# Altium footprint library 5-103639-5.PcbLib: 1 footprints
Each footprint in its own frame and in the unit in brackets; x right, y up, seen from the top. Pads: shape width x height; smd on the part's side, far side on the other; paste and mask are expansions set on the pad; w line width, h text height; cw(c..) or ccw(c..) is an arc to the next point about the centre after c.
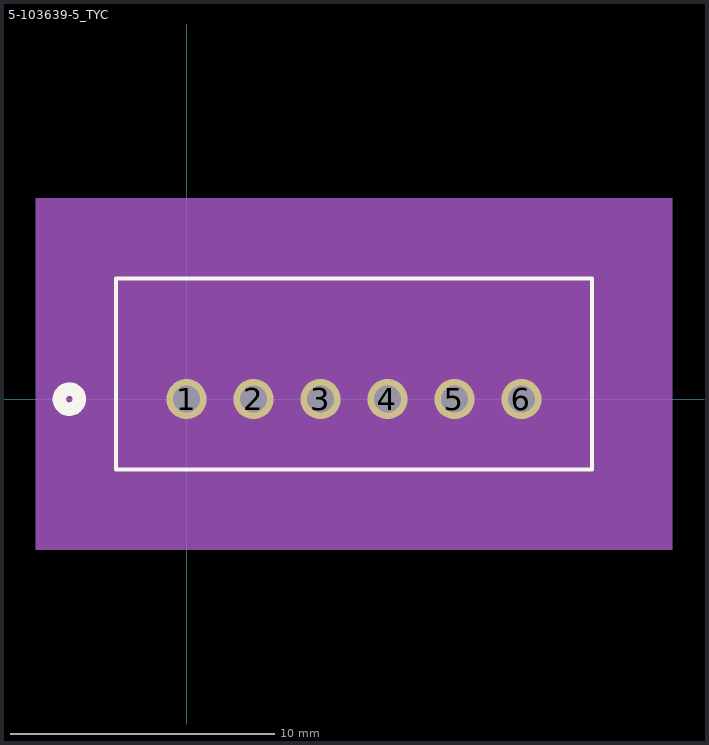
[diagram p0: the footprint, top view; thin cyan lines are the x and y axes]

## 5-103639-5_TYC [mil]
pads (6):
  round 60 hole 40 mask+0: 1(0,0) 2(100,0) 3(200,0) 4(300,0) 5(400,0) 6(500,0)
Top Overlay:
  circle w20: c-175,0 r15
  lines w6: -105,-105 605,-105 605,180 -105,180 -105,-105
Bottom Overlay:
  circle w20: c-175,0 r15
Mechanical 5:
  region: -225,300 725,300 725,-225 -225,-225
Mechanical 13:
  circle w20: c0,-75 r15
  lines w1: -100,-100 600,-100 600,175 -100,175 -100,-100
Mechanical 15:
  region: 610,185 -110,185 -110,-110 610,-110
  lines w6: -110,-110 -110,185 610,185 610,-110 -110,-110
3D body: height 10, standoff 0, extent 0,0 10,10